# Altium integrated library Maxim_transrecivers.IntLib: 302 symbols (part 4 of 7)
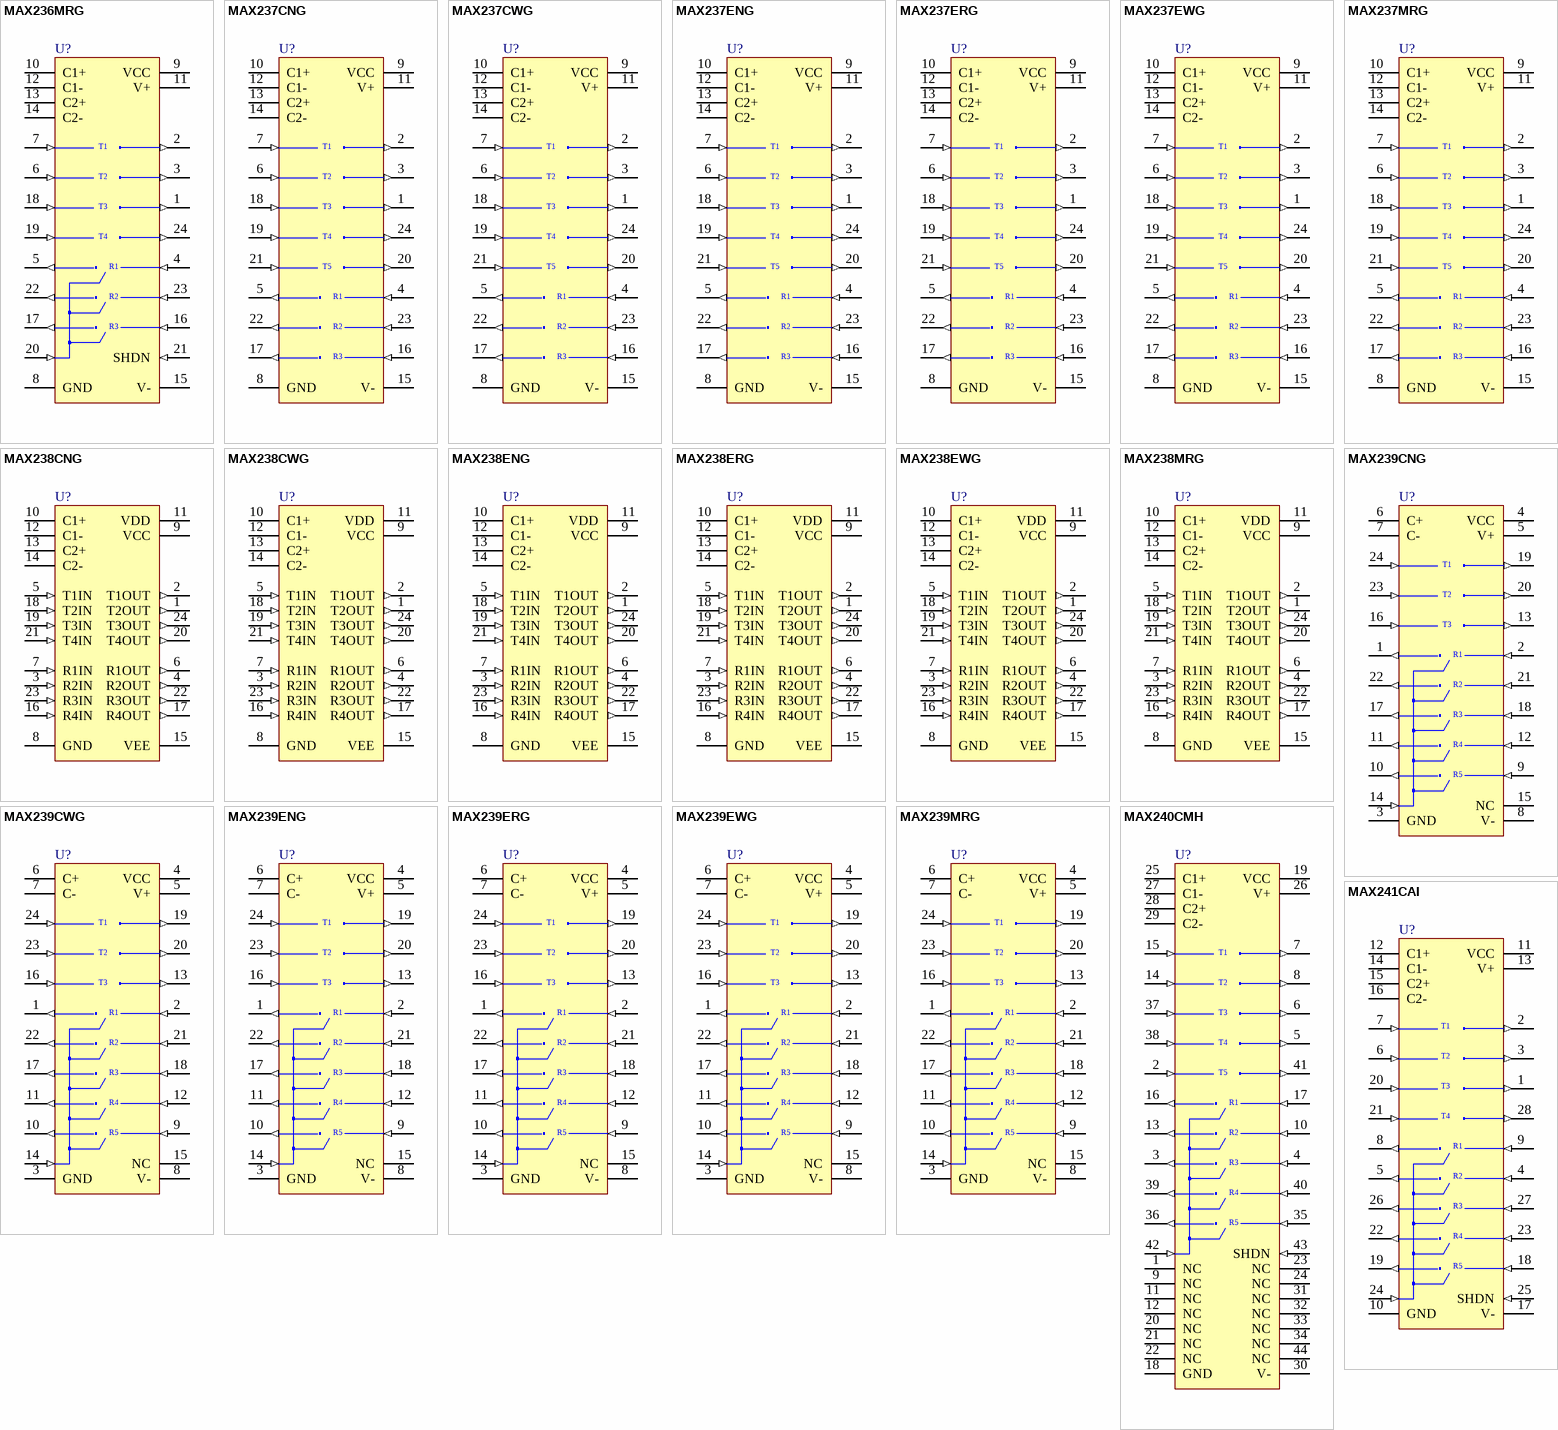
[diagram p15: symbols MAX236MRG to MAX241CAI]

## MAX238ENG
designator U?
+5V Powered RS-232 Driver/Receiver; Published: 16-Jan-2001; LatestRevisionDate: 29-May-2009; LatestRevisionNote: Component Body Added.; DatasheetVersion: Apr-1992; PackageVersion: 1997; PackageReference: NG24A; Publisher: Altium Limited; PackageDescription: DIP, 24-Pin, Row Spacing 7.62 mm, Pitch 2.54 mm; Code_JEDEC: MS-001-AF; ComponentLink1Description: Manufacturer Link; ComponentLink1URL: http://www.maxim-ic.com/; ComponentLink2Description: Datasheet; ComponentLink2URL: http://pdfserv.maxim-ic.com/en/ds/MAX220-MAX249.pdf
footprint NG24A (DIP, 24-Leads, Row Spacing 7.62mm, Pitch 2.54mm, Body 30.55x6.99mm)
3D model NG24 (DIP, 24-Pin, Row Spacing 7.62 mm, Pitch 2.54 mm)
pins: 1 T2OUT (out), 2 T1OUT (out), 3 R2IN (in), 4 R2OUT (out), 5 T1IN (in), 6 R1OUT (out), 7 R1IN (in), 8 GND (power), 9 VCC (power), 10 C1+, 11 VDD (power), 12 C1-, 13 C2+, 14 C2-, 15 VEE (power), 16 R4IN (in), 17 R4OUT (out), 18 T2IN (in), 19 T3IN (in), 20 T4OUT (out), 21 T4IN (in), 22 R3OUT (out), 23 R3IN (in), 24 T3OUT (out)

## MAX238ERG
designator U?
+5V Powered RS-232 Driver/Receiver; Published: 16-Jan-2001; LatestRevisionDate: 29-May-2009; LatestRevisionNote: Component Body Added.; DatasheetVersion: Apr-1992; PackageVersion: 1996; PackageReference: RG24; Publisher: Altium Limited; PackageDescription: DIP, 24-Pin, Row Spacing 7.62 mm, Pitch 2.54 mm; Code_JEDEC: MS-001-AF; ComponentLink1Description: Manufacturer Link; ComponentLink1URL: http://www.maxim-ic.com/; ComponentLink2Description: Datasheet; ComponentLink2URL: http://pdfserv.maxim-ic.com/en/ds/MAX220-MAX249.pdf
footprint RG24 (DIP, 24-Leads, Row Spacing 7.62mm, Pitch 2.54mm, Body 31.88x6.73mm)
3D model NG24 (DIP, 24-Pin, Row Spacing 7.62 mm, Pitch 2.54 mm)
pins: 1 T2OUT (out), 2 T1OUT (out), 3 R2IN (in), 4 R2OUT (out), 5 T1IN (in), 6 R1OUT (out), 7 R1IN (in), 8 GND (power), 9 VCC (power), 10 C1+, 11 VDD (power), 12 C1-, 13 C2+, 14 C2-, 15 VEE (power), 16 R4IN (in), 17 R4OUT (out), 18 T2IN (in), 19 T3IN (in), 20 T4OUT (out), 21 T4IN (in), 22 R3OUT (out), 23 R3IN (in), 24 T3OUT (out)

## MAX238EWG
designator U?
+5V Powered RS-232 Driver/Receiver; Published: 16-Jan-2001; LatestRevisionDate: 13-Apr-2006; LatestRevisionNote: IPC-7351 Footprint Added.; DatasheetVersion: Apr-1992; PackageReference: WSO24; Publisher: Altium Limited; PackageDescription: 24-Pin Small Outline Integrated Circuit 1.27 mm Pitch; ComponentLink1Description: Manufacturer Link; ComponentLink1URL: http://www.maxim-ic.com/; ComponentLink2Description: Datasheet; ComponentLink2URL: http://pdfserv.maxim-ic.com/en/ds/MAX220-MAX249.pdf
footprint WSO24_N (SOIC, 24-Leads, Body 15.4x7.5mm, Pitch 1.27mm, IPC Medium Density)
footprint WSO24_L (SOIC, 24-Leads, Body 15.4x7.5mm, Pitch 1.27mm, IPC High Density)
footprint WSO24_M (SOIC, 24-Leads, Body 15.4x7.5mm, Pitch 1.27mm, IPC Low Density)
3D model WSO24 (24-Pin Small Outline Integrated Circuit 1.27 mm Pitch)
pins: 1 T2OUT (out), 2 T1OUT (out), 3 R2IN (in), 4 R2OUT (out), 5 T1IN (in), 6 R1OUT (out), 7 R1IN (in), 8 GND (power), 9 VCC (power), 10 C1+, 11 VDD (power), 12 C1-, 13 C2+, 14 C2-, 15 VEE (power), 16 R4IN (in), 17 R4OUT (out), 18 T2IN (in), 19 T3IN (in), 20 T4OUT (out), 21 T4IN (in), 22 R3OUT (out), 23 R3IN (in), 24 T3OUT (out)

## MAX238MRG
designator U?
+5V Powered RS-232 Driver/Receiver; Published: 16-Jan-2001; LatestRevisionDate: 29-May-2009; LatestRevisionNote: Component Body Added.; DatasheetVersion: Apr-1992; PackageVersion: 1996; PackageReference: RG24; Publisher: Altium Limited; PackageDescription: DIP, 24-Pin, Row Spacing 7.62 mm, Pitch 2.54 mm; Code_JEDEC: MS-001-AF; ComponentLink1Description: Manufacturer Link; ComponentLink1URL: http://www.maxim-ic.com/; ComponentLink2Description: Datasheet; ComponentLink2URL: http://pdfserv.maxim-ic.com/en/ds/MAX220-MAX249.pdf
footprint RG24 (DIP, 24-Leads, Row Spacing 7.62mm, Pitch 2.54mm, Body 31.88x6.73mm)
3D model NG24 (DIP, 24-Pin, Row Spacing 7.62 mm, Pitch 2.54 mm)
pins: 1 T2OUT (out), 2 T1OUT (out), 3 R2IN (in), 4 R2OUT (out), 5 T1IN (in), 6 R1OUT (out), 7 R1IN (in), 8 GND (power), 9 VCC (power), 10 C1+, 11 VDD (power), 12 C1-, 13 C2+, 14 C2-, 15 VEE (power), 16 R4IN (in), 17 R4OUT (out), 18 T2IN (in), 19 T3IN (in), 20 T4OUT (out), 21 T4IN (in), 22 R3OUT (out), 23 R3IN (in), 24 T3OUT (out)

## MAX239CNG
designator U?
+5V-Powered, Multichannel RS-232 Driver/Receiver; Published: 16-Jan-2001; LatestRevisionDate: 29-May-2009; LatestRevisionNote: Component Body Added.; DatasheetVersion: Nov-1997; PackageVersion: Aug-2000; PackageReference: NG24; Publisher: Altium Limited; PackageDescription: DIP, 24-Pin, Row Spacing 7.62 mm, Pitch 2.54 mm; Code_JEDEC: MS-001-AF; ComponentLink1Description: Manufacturer Link; ComponentLink1URL: http://www.maxim-ic.com/; ComponentLink2Description: Datasheet; ComponentLink2URL: http://pdfserv.maxim-ic.com/en/ds/MAX220-MAX249.pdf
footprint NG24 (DIP, 24-Leads, Row Spacing 7.62mm, Pitch 2.54mm, Body 30.55x7.24mm)
3D model NG24 (DIP, 24-Pin, Row Spacing 7.62 mm, Pitch 2.54 mm)
pins: 1 R1OUT (out), 2 R1IN (in), 3 GND (power), 4 VCC (power), 5 V+ (power), 6 C+, 7 C-, 8 V- (power), 9 R5IN (in), 10 R5OUT (out), 11 R4OUT (out), 12 R4IN (in), 13 T3OUT (out), 14 ~{EN} (in), 15 NC, 16 T3IN (in), 17 R3OUT (out), 18 R3IN (in), 19 T1OUT (out), 20 T2OUT (out), 21 R2IN (in), 22 R2OUT (out), 23 T2IN (in), 24 T1IN (in)
text: T1; T2; T3; R1; R2; R3; R4; R5

## MAX239CWG
designator U?
+5V-Powered, Multichannel RS-232 Driver/Receiver; Published: 16-Jan-2001; LatestRevisionDate: 13-Apr-2006; LatestRevisionNote: IPC-7351 Footprint Added.; DatasheetVersion: Nov-1997; PackageReference: WSO24; Publisher: Altium Limited; PackageDescription: 24-Pin Small Outline Integrated Circuit 1.27 mm Pitch; ComponentLink1Description: Manufacturer Link; ComponentLink1URL: http://www.maxim-ic.com/; ComponentLink2Description: Datasheet; ComponentLink2URL: http://pdfserv.maxim-ic.com/en/ds/MAX220-MAX249.pdf
footprint WSO24_N (SOIC, 24-Leads, Body 15.4x7.5mm, Pitch 1.27mm, IPC Medium Density)
footprint WSO24_L (SOIC, 24-Leads, Body 15.4x7.5mm, Pitch 1.27mm, IPC High Density)
footprint WSO24_M (SOIC, 24-Leads, Body 15.4x7.5mm, Pitch 1.27mm, IPC Low Density)
3D model WSO24 (24-Pin Small Outline Integrated Circuit 1.27 mm Pitch)
pins: 1 R1OUT (out), 2 R1IN (in), 3 GND (power), 4 VCC (power), 5 V+ (power), 6 C+, 7 C-, 8 V- (power), 9 R5IN (in), 10 R5OUT (out), 11 R4OUT (out), 12 R4IN (in), 13 T3OUT (out), 14 ~{EN} (in), 15 NC, 16 T3IN (in), 17 R3OUT (out), 18 R3IN (in), 19 T1OUT (out), 20 T2OUT (out), 21 R2IN (in), 22 R2OUT (out), 23 T2IN (in), 24 T1IN (in)
text: T1; T2; T3; R1; R2; R3; R4; R5

## MAX239ENG
designator U?
+5V-Powered, Multichannel RS-232 Driver/Receiver; Published: 16-Jan-2001; LatestRevisionDate: 29-May-2009; LatestRevisionNote: Component Body Added.; DatasheetVersion: Nov-1997; PackageVersion: Aug-2000; PackageReference: NG24; Publisher: Altium Limited; PackageDescription: DIP, 24-Pin, Row Spacing 7.62 mm, Pitch 2.54 mm; Code_JEDEC: MS-001-AF; ComponentLink1Description: Manufacturer Link; ComponentLink1URL: http://www.maxim-ic.com/; ComponentLink2Description: Datasheet; ComponentLink2URL: http://pdfserv.maxim-ic.com/en/ds/MAX220-MAX249.pdf
footprint NG24 (DIP, 24-Leads, Row Spacing 7.62mm, Pitch 2.54mm, Body 30.55x7.24mm)
3D model NG24 (DIP, 24-Pin, Row Spacing 7.62 mm, Pitch 2.54 mm)
pins: 1 R1OUT (out), 2 R1IN (in), 3 GND (power), 4 VCC (power), 5 V+ (power), 6 C+, 7 C-, 8 V- (power), 9 R5IN (in), 10 R5OUT (out), 11 R4OUT (out), 12 R4IN (in), 13 T3OUT (out), 14 ~{EN} (in), 15 NC, 16 T3IN (in), 17 R3OUT (out), 18 R3IN (in), 19 T1OUT (out), 20 T2OUT (out), 21 R2IN (in), 22 R2OUT (out), 23 T2IN (in), 24 T1IN (in)
text: T1; T2; T3; R1; R2; R3; R4; R5

## MAX239ERG
designator U?
+5V-Powered, Multichannel RS-232 Driver/Receiver; Published: 16-Jan-2001; LatestRevisionDate: 29-May-2009; LatestRevisionNote: Component Body Added.; DatasheetVersion: Nov-1997; PackageVersion: 1996; PackageReference: RG24; Publisher: Altium Limited; PackageDescription: DIP, 24-Pin, Row Spacing 7.62 mm, Pitch 2.54 mm; Code_JEDEC: MS-001-AF; ComponentLink1Description: Manufacturer Link; ComponentLink1URL: http://www.maxim-ic.com/; ComponentLink2Description: Datasheet; ComponentLink2URL: http://pdfserv.maxim-ic.com/en/ds/MAX220-MAX249.pdf
footprint RG24 (DIP, 24-Leads, Row Spacing 7.62mm, Pitch 2.54mm, Body 31.88x6.73mm)
3D model NG24 (DIP, 24-Pin, Row Spacing 7.62 mm, Pitch 2.54 mm)
pins: 1 R1OUT (out), 2 R1IN (in), 3 GND (power), 4 VCC (power), 5 V+ (power), 6 C+, 7 C-, 8 V- (power), 9 R5IN (in), 10 R5OUT (out), 11 R4OUT (out), 12 R4IN (in), 13 T3OUT (out), 14 ~{EN} (in), 15 NC, 16 T3IN (in), 17 R3OUT (out), 18 R3IN (in), 19 T1OUT (out), 20 T2OUT (out), 21 R2IN (in), 22 R2OUT (out), 23 T2IN (in), 24 T1IN (in)
text: T1; T2; T3; R1; R2; R3; R4; R5

## MAX239EWG
designator U?
+5V-Powered, Multichannel RS-232 Driver/Receiver; Published: 16-Jan-2001; LatestRevisionDate: 13-Apr-2006; LatestRevisionNote: IPC-7351 Footprint Added.; DatasheetVersion: Nov-1997; PackageReference: WSO24; Publisher: Altium Limited; PackageDescription: 24-Pin Small Outline Integrated Circuit 1.27 mm Pitch; ComponentLink1Description: Manufacturer Link; ComponentLink1URL: http://www.maxim-ic.com/; ComponentLink2Description: Datasheet; ComponentLink2URL: http://pdfserv.maxim-ic.com/en/ds/MAX220-MAX249.pdf
footprint WSO24_N (SOIC, 24-Leads, Body 15.4x7.5mm, Pitch 1.27mm, IPC Medium Density)
footprint WSO24_L (SOIC, 24-Leads, Body 15.4x7.5mm, Pitch 1.27mm, IPC High Density)
footprint WSO24_M (SOIC, 24-Leads, Body 15.4x7.5mm, Pitch 1.27mm, IPC Low Density)
3D model WSO24 (24-Pin Small Outline Integrated Circuit 1.27 mm Pitch)
pins: 1 R1OUT (out), 2 R1IN (in), 3 GND (power), 4 VCC (power), 5 V+ (power), 6 C+, 7 C-, 8 V- (power), 9 R5IN (in), 10 R5OUT (out), 11 R4OUT (out), 12 R4IN (in), 13 T3OUT (out), 14 ~{EN} (in), 15 NC, 16 T3IN (in), 17 R3OUT (out), 18 R3IN (in), 19 T1OUT (out), 20 T2OUT (out), 21 R2IN (in), 22 R2OUT (out), 23 T2IN (in), 24 T1IN (in)
text: T1; T2; T3; R1; R2; R3; R4; R5

## MAX239MRG
designator U?
+5V-Powered, Multichannel RS-232 Driver/Receiver; Published: 16-Jan-2001; LatestRevisionDate: 29-May-2009; LatestRevisionNote: Component Body Added.; DatasheetVersion: Nov-1997; PackageVersion: 1996; PackageReference: RG24; Publisher: Altium Limited; PackageDescription: DIP, 24-Pin, Row Spacing 7.62 mm, Pitch 2.54 mm; Code_JEDEC: MS-001-AF; ComponentLink1Description: Manufacturer Link; ComponentLink1URL: http://www.maxim-ic.com/; ComponentLink2Description: Datasheet; ComponentLink2URL: http://pdfserv.maxim-ic.com/en/ds/MAX220-MAX249.pdf
footprint RG24 (DIP, 24-Leads, Row Spacing 7.62mm, Pitch 2.54mm, Body 31.88x6.73mm)
3D model NG24 (DIP, 24-Pin, Row Spacing 7.62 mm, Pitch 2.54 mm)
pins: 1 R1OUT (out), 2 R1IN (in), 3 GND (power), 4 VCC (power), 5 V+ (power), 6 C+, 7 C-, 8 V- (power), 9 R5IN (in), 10 R5OUT (out), 11 R4OUT (out), 12 R4IN (in), 13 T3OUT (out), 14 ~{EN} (in), 15 NC, 16 T3IN (in), 17 R3OUT (out), 18 R3IN (in), 19 T1OUT (out), 20 T2OUT (out), 21 R2IN (in), 22 R2OUT (out), 23 T2IN (in), 24 T1IN (in)
text: T1; T2; T3; R1; R2; R3; R4; R5

## MAX240CMH
designator U?
+5V-Powered, Multichannel RS-232 Driver/Receiver; Published: 16-Jan-2001; LatestRevisionDate: 13-Apr-2006; LatestRevisionNote: IPC-7351 Footprint Added.; DatasheetVersion: Nov-1997; PackageVersion: 21-0826; PackageReference: MQFP44; Publisher: Altium Limited; PackageDescription: 44-Pin Quad Flat Pack 0.8 mm Pitch; Code_JEDEC: MS-022-AB; Code_IPC: QFP80P1320X1320-44; ComponentLink1Description: Manufacturer Link; ComponentLink1URL: http://www.maxim-ic.com/; ComponentLink2Description: Datasheet; ComponentLink2URL: http://pdfserv.maxim-ic.com/en/ds/MAX220-MAX249.pdf
footprint MQFP44_N (QFP, 44-Leads, Body 10x10mm, Pitch 0.8mm, IPC Medium Density)
footprint MQFP44_L (QFP, 44-Leads, Body 10x10mm, Pitch 0.8mm, IPC High Density)
footprint MQFP44_M (QFP, 44-Leads, Body 10x10mm, Pitch 0.8mm, IPC Low Density)
3D model MAX240-MQFP44 (44-Pin Quad Flat Pack 0.8 mm Pitch)
pins: 1 NC, 2 T5IN (in), 3 R3OUT (out), 4 R3IN (in), 5 T4OUT (out), 6 T3OUT (out), 7 T1OUT (out), 8 T2OUT (out), 9 NC, 10 R2IN (in), 11 NC, 12 NC, 13 R2OUT (out), 14 T2IN (in), 15 T1IN (in), 16 R1OUT (out), 17 R1IN (in), 18 GND (power), 19 VCC (power), 20 NC, 21 NC, 22 NC, 23 NC, 24 NC, 25 C1+, 26 V+ (power), 27 C1-, 28 C2+, 29 C2-, 30 V- (power), 31 NC, 32 NC, 33 NC, 34 NC, 35 R5IN (in), 36 R5OUT (out), 37 T3IN (in), 38 T4IN (in), 39 R4OUT (out), 40 R4IN (in), 41 T5OUT (out), 42 ~{EN} (in), 43 SHDN (in), 44 NC
text: T1; T2; T3; T4; T5; R1; R2; R3; R4; R5

## MAX241CAI
designator U?
+5V-Powered, Multichannel RS-232 Driver/Receiver; Published: 16-Jan-2001; LatestRevisionDate: 29-May-2009; LatestRevisionNote: IPC-7351 Footprint Added.; DatasheetVersion: Nov-1997; PackageVersion: Jul-2000; PackageReference: SSOP28; Publisher: Altium Limited; PackageDescription: 28-Pin Small Outline Package 0.65 mm Pitch; Code_JEDEC: MO-150-AH; Code_IPC: SOP65P780-28; ComponentLink1Description: Manufacturer Link; ComponentLink1URL: http://www.maxim-ic.com/; ComponentLink2Description: Datasheet; ComponentLink2URL: http://pdfserv.maxim-ic.com/en/ds/MAX220-MAX249.pdf
footprint SSOP28_N (SOP, 28-Leads, Body 10.2x5.3mm, Pitch 0.65mm, IPC Medium Density)
footprint SSOP28_L (SOP, 28-Leads, Body 10.2x5.3mm, Pitch 0.65mm, IPC High Density)
footprint SSOP28_M (SOP, 28-Leads, Body 10.2x5.3mm, Pitch 0.65mm, IPC Low Density)
3D model SSOP28 (28-Pin Small Outline Package 0.65 mm Pitch)
pins: 1 T3OUT (out), 2 T1OUT (out), 3 T2OUT (out), 4 R2IN (in), 5 R2OUT (out), 6 T2IN (in), 7 T1IN (in), 8 R1OUT (out), 9 R1IN (in), 10 GND (power), 11 VCC (power), 12 C1+, 13 V+ (power), 14 C1-, 15 C2+, 16 C2-, 17 V- (power), 18 R5IN (in), 19 R5OUT (out), 20 T3IN (in), 21 T4IN (in), 22 R4OUT (out), 23 R4IN (in), 24 ~{EN} (in), 25 SHDN (in), 26 R3OUT (out), 27 R3IN (in), 28 T4OUT (out)
text: T1; T2; T3; T4; R1; R2; R3; R4; R5

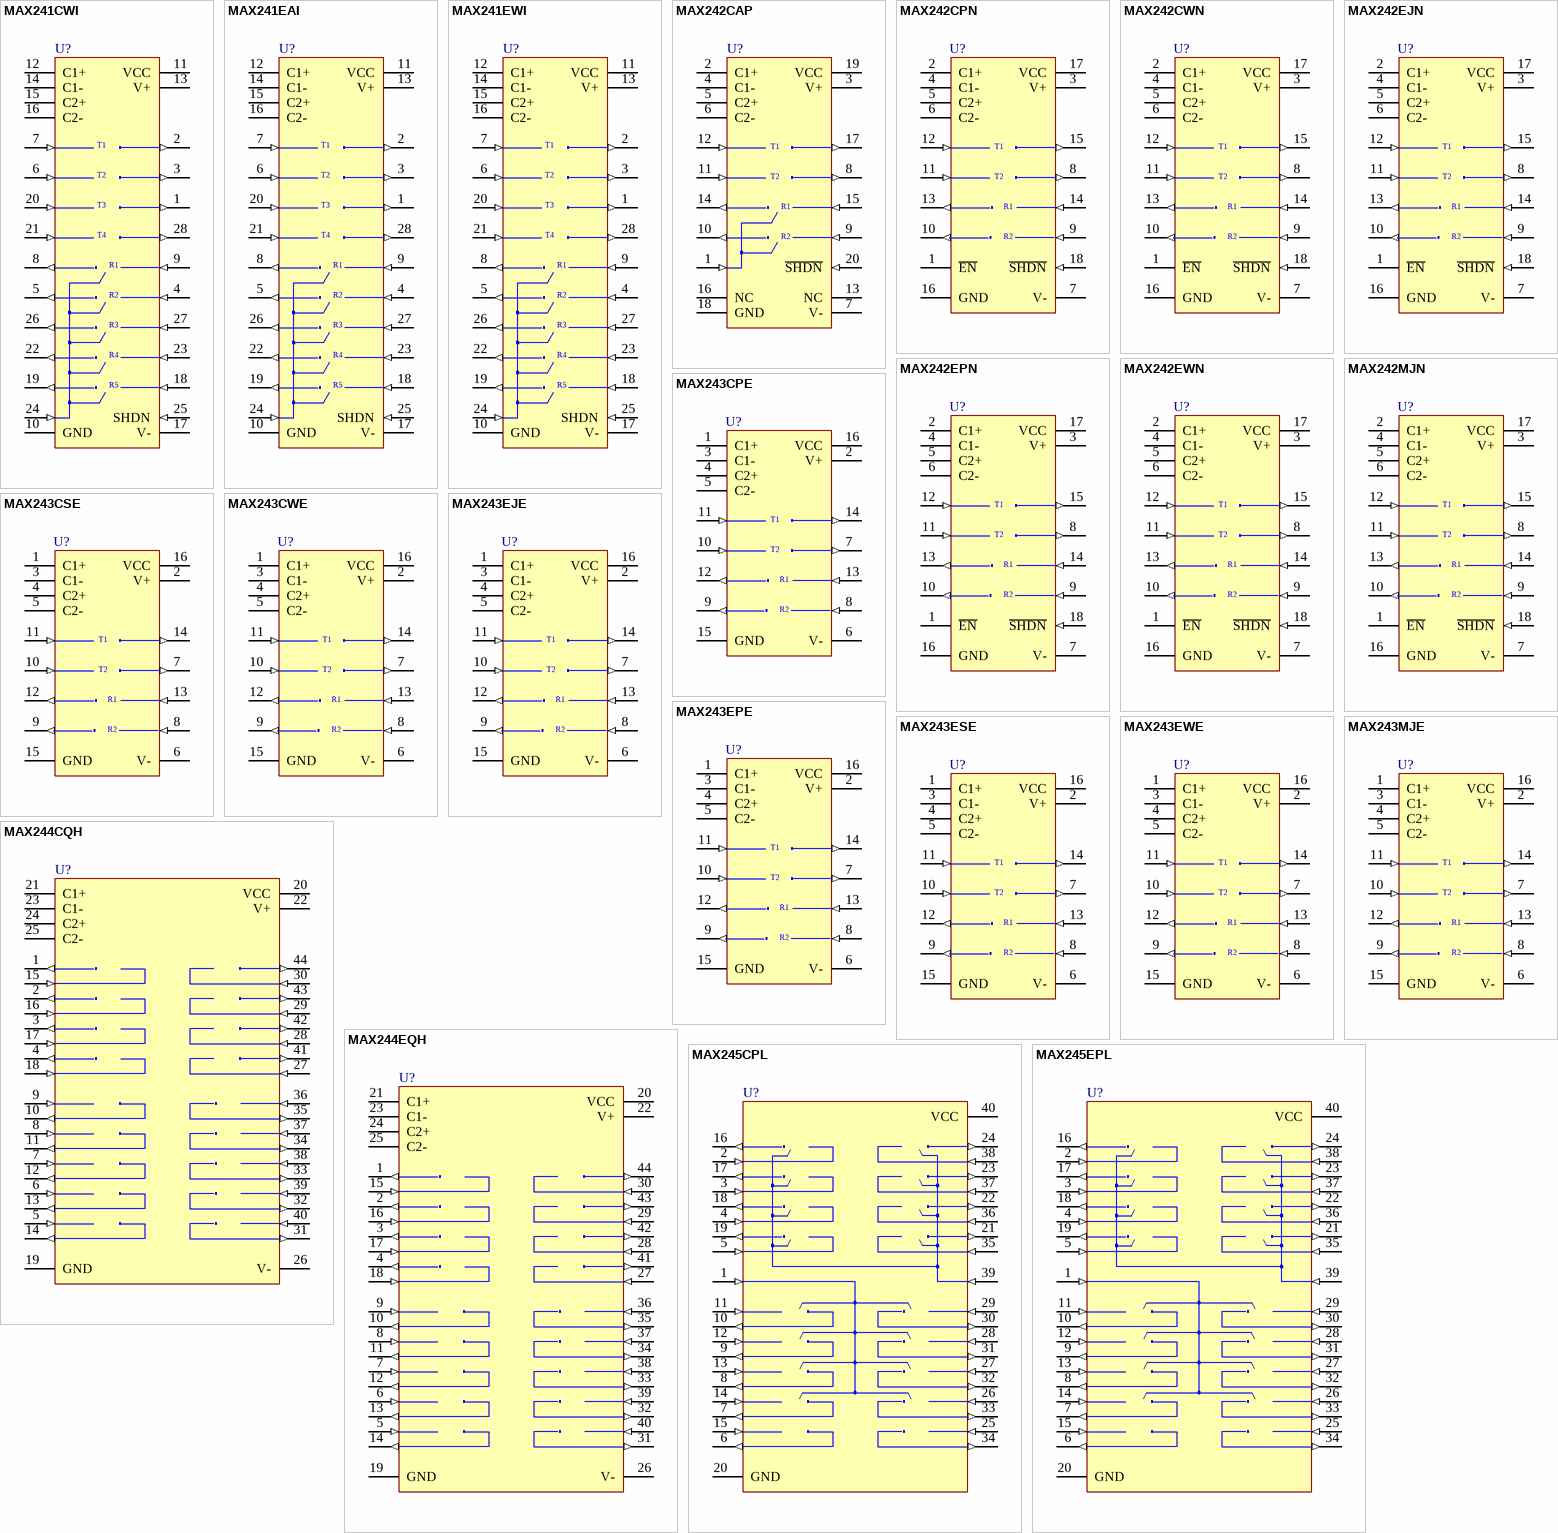
[diagram p6: symbols MAX241CWI to MAX245EPL]

## MAX241CWI
designator U?
+5V-Powered, Multichannel RS-232 Driver/Receiver; Published: 16-Jan-2001; LatestRevisionDate: 13-Apr-2006; LatestRevisionNote: IPC-7351 Footprint Added.; DatasheetVersion: Nov-1997; PackageReference: WSO28; Publisher: Altium Limited; PackageDescription: 28-Pin Small Outline Integrated Circuit 1.27 mm Pitch; ComponentLink1Description: Manufacturer Link; ComponentLink1URL: http://www.maxim-ic.com/; ComponentLink2Description: Datasheet; ComponentLink2URL: http://pdfserv.maxim-ic.com/en/ds/MAX220-MAX249.pdf
footprint WSO28_N (SOIC, 28-Leads, Body 17.9x7.5mm, Pitch 1.27mm, IPC Medium Density)
footprint WSO28_L (SOIC, 28-Leads, Body 17.9x7.5mm, Pitch 1.27mm, IPC High Density)
footprint WSO28_M (SOIC, 28-Leads, Body 17.9x7.5mm, Pitch 1.27mm, IPC Low Density)
3D model WSO28 (28-Pin Small Outline Integrated Circuit 1.27 mm Pitch)
pins: 1 T3OUT (out), 2 T1OUT (out), 3 T2OUT (out), 4 R2IN (in), 5 R2OUT (out), 6 T2IN (in), 7 T1IN (in), 8 R1OUT (out), 9 R1IN (in), 10 GND (power), 11 VCC (power), 12 C1+, 13 V+ (power), 14 C1-, 15 C2+, 16 C2-, 17 V- (power), 18 R5IN (in), 19 R5OUT (out), 20 T3IN (in), 21 T4IN (in), 22 R4OUT (out), 23 R4IN (in), 24 ~{EN} (in), 25 SHDN (in), 26 R3OUT (out), 27 R3IN (in), 28 T4OUT (out)
text: T1; T2; T3; T4; R1; R2; R3; R4; R5

## MAX241EAI
designator U?
+5V-Powered, Multichannel RS-232 Driver/Receiver; Published: 16-Jan-2001; LatestRevisionDate: 29-May-2009; LatestRevisionNote: IPC-7351 Footprint Added.; DatasheetVersion: Nov-1997; PackageVersion: Jul-2000; PackageReference: SSOP28; Publisher: Altium Limited; PackageDescription: 28-Pin Small Outline Package 0.65 mm Pitch; Code_JEDEC: MO-150-AH; Code_IPC: SOP65P780-28; ComponentLink1Description: Manufacturer Link; ComponentLink1URL: http://www.maxim-ic.com/; ComponentLink2Description: Datasheet; ComponentLink2URL: http://pdfserv.maxim-ic.com/en/ds/MAX220-MAX249.pdf
footprint SSOP28_N (SOP, 28-Leads, Body 10.2x5.3mm, Pitch 0.65mm, IPC Medium Density)
footprint SSOP28_L (SOP, 28-Leads, Body 10.2x5.3mm, Pitch 0.65mm, IPC High Density)
footprint SSOP28_M (SOP, 28-Leads, Body 10.2x5.3mm, Pitch 0.65mm, IPC Low Density)
3D model SSOP28 (28-Pin Small Outline Package 0.65 mm Pitch)
pins: 1 T3OUT (out), 2 T1OUT (out), 3 T2OUT (out), 4 R2IN (in), 5 R2OUT (out), 6 T2IN (in), 7 T1IN (in), 8 R1OUT (out), 9 R1IN (in), 10 GND (power), 11 VCC (power), 12 C1+, 13 V+ (power), 14 C1-, 15 C2+, 16 C2-, 17 V- (power), 18 R5IN (in), 19 R5OUT (out), 20 T3IN (in), 21 T4IN (in), 22 R4OUT (out), 23 R4IN (in), 24 ~{EN} (in), 25 SHDN (in), 26 R3OUT (out), 27 R3IN (in), 28 T4OUT (out)
text: T1; T2; T3; T4; R1; R2; R3; R4; R5

## MAX241EWI
designator U?
+5V-Powered, Multichannel RS-232 Driver/Receiver; Published: 16-Jan-2001; LatestRevisionDate: 13-Apr-2006; LatestRevisionNote: IPC-7351 Footprint Added.; DatasheetVersion: Nov-1997; PackageReference: WSO28; Publisher: Altium Limited; PackageDescription: 28-Pin Small Outline Integrated Circuit 1.27 mm Pitch; ComponentLink1Description: Manufacturer Link; ComponentLink1URL: http://www.maxim-ic.com/; ComponentLink2Description: Datasheet; ComponentLink2URL: http://pdfserv.maxim-ic.com/en/ds/MAX220-MAX249.pdf
footprint WSO28_N (SOIC, 28-Leads, Body 17.9x7.5mm, Pitch 1.27mm, IPC Medium Density)
footprint WSO28_L (SOIC, 28-Leads, Body 17.9x7.5mm, Pitch 1.27mm, IPC High Density)
footprint WSO28_M (SOIC, 28-Leads, Body 17.9x7.5mm, Pitch 1.27mm, IPC Low Density)
3D model WSO28 (28-Pin Small Outline Integrated Circuit 1.27 mm Pitch)
pins: 1 T3OUT (out), 2 T1OUT (out), 3 T2OUT (out), 4 R2IN (in), 5 R2OUT (out), 6 T2IN (in), 7 T1IN (in), 8 R1OUT (out), 9 R1IN (in), 10 GND (power), 11 VCC (power), 12 C1+, 13 V+ (power), 14 C1-, 15 C2+, 16 C2-, 17 V- (power), 18 R5IN (in), 19 R5OUT (out), 20 T3IN (in), 21 T4IN (in), 22 R4OUT (out), 23 R4IN (in), 24 ~{EN} (in), 25 SHDN (in), 26 R3OUT (out), 27 R3IN (in), 28 T4OUT (out)
text: T1; T2; T3; T4; R1; R2; R3; R4; R5

## MAX242CAP
designator U?
+5V-Powered, Multichannel RS-232 Driver/Receiver; Published: 16-Jan-2001; LatestRevisionDate: 29-May-2009; LatestRevisionNote: IPC-7351 Footprint Added.; DatasheetVersion: Nov-1997; PackageVersion: 1997; PackageReference: SSOP20; Publisher: Altium Limited; PackageDescription: 20-Pin Small Outline Package 0.65 mm Pitch; Code_JEDEC: MO-150-AE; Code_IPC: SOP65P780-20; ComponentLink1Description: Manufacturer Link; ComponentLink1URL: http://www.maxim-ic.com/; ComponentLink2Description: Datasheet; ComponentLink2URL: http://pdfserv.maxim-ic.com/en/ds/MAX220-MAX249.pdf
footprint SSOP20_N (SOP, 20-Leads, Body 7.2x5.3mm, Pitch 0.65mm, IPC Medium Density)
footprint SSOP20_L (SOP, 20-Leads, Body 7.2x5.3mm, Pitch 0.65mm, IPC High Density)
footprint SSOP20_M (SOP, 20-Leads, Body 7.2x5.3mm, Pitch 0.65mm, IPC Low Density)
3D model SSOP20 (20-Pin Small Outline Package 0.65 mm Pitch)
pins: 1 ~{EN} (in), 2 C1+, 3 V+ (power), 4 C1-, 5 C2+, 6 C2-, 7 V- (power), 8 T2OUT (out), 9 R2IN (in), 10 R2OUT (out), 11 T2IN (in), 12 T1IN (in), 13 NC, 14 R1OUT (out), 15 R1IN (in), 16 NC, 17 T1OUT (out), 18 GND (power), 19 VCC (power), 20 ~{SHDN} (in)
text: T1; T2; R1; R2

## MAX242CPN
designator U?
+5V-Powered, Multichannel RS-232 Driver/Receiver; Published: 16-Jan-2001; LatestRevisionDate: 29-May-2009; LatestRevisionNote: Component Body Added.; DatasheetVersion: Nov-1997; PackageVersion: Aug-2000; PackageReference: PN18; Publisher: Altium Limited; PackageDescription: DIP, 18-Pin, Row Spacing 7.62 mm, Pitch 2.54 mm; ComponentLink1Description: Manufacturer Link; ComponentLink1URL: http://www.maxim-ic.com/; ComponentLink2Description: Datasheet; ComponentLink2URL: http://pdfserv.maxim-ic.com/en/ds/MAX220-MAX249.pdf
footprint PN18 (DIP, 18-Leads, Row Spacing 7.62mm, Pitch 2.54mm, Body 22.86x7.24mm)
3D model PN18 (DIP, 18-Pin, Row Spacing 7.62 mm, Pitch 2.54 mm)
pins: 1 ~{EN}, 2 C1+, 3 V+ (power), 4 C1-, 5 C2+, 6 C2-, 7 V- (power), 8 T2OUT (out), 9 R2IN (in), 10 R2OUT (out), 11 T2IN (in), 12 T1IN (in), 13 R1OUT (out), 14 R1IN (in), 15 T1OUT (out), 16 GND (power), 17 VCC (power), 18 ~{SHDN} (in)
text: T1; T2; R1; R2

## MAX242CWN
designator U?
+5V-Powered, Multichannel RS-232 Driver/Receiver; Published: 16-Jan-2001; LatestRevisionDate: 13-Apr-2006; LatestRevisionNote: IPC-7351 Footprint Added.; DatasheetVersion: Nov-1997; PackageReference: WSO18; Publisher: Altium Limited; PackageDescription: 18-Pin Small Outline Integrated Circuit 1.27 mm Pitch; Code_JEDEC: MS-013-AB; ComponentLink1Description: Manufacturer Link; ComponentLink1URL: http://www.maxim-ic.com/; ComponentLink2Description: Datasheet; ComponentLink2URL: http://pdfserv.maxim-ic.com/en/ds/MAX220-MAX249.pdf
footprint WSO18_N (SOIC, 18-Leads, Body 11.6x7.5mm, Pitch 1.27mm, IPC Medium Density)
footprint WSO18_L (SOIC, 18-Leads, Body 11.6x7.5mm, Pitch 1.27mm, IPC High Density)
footprint WSO18_M (SOIC, 18-Leads, Body 11.6x7.5mm, Pitch 1.27mm, IPC Low Density)
3D model WSO18 (18-Pin Small Outline Integrated Circuit 1.27 mm Pitch)
pins: 1 ~{EN}, 2 C1+, 3 V+ (power), 4 C1-, 5 C2+, 6 C2-, 7 V- (power), 8 T2OUT (out), 9 R2IN (in), 10 R2OUT (out), 11 T2IN (in), 12 T1IN (in), 13 R1OUT (out), 14 R1IN (in), 15 T1OUT (out), 16 GND (power), 17 VCC (power), 18 ~{SHDN} (in)
text: T1; T2; R1; R2

## MAX242EJN
designator U?
+5V-Powered, Multichannel RS-232 Driver/Receiver; Published: 16-Jan-2001; LatestRevisionDate: 29-May-2009; LatestRevisionNote: Component Body Added.; DatasheetVersion: Nov-1997; PackageVersion: 1996; PackageReference: JN18; Publisher: Altium Limited; PackageDescription: DIP, 18-Pin, Row Spacing 7.62 mm, Pitch 2.54 mm; ComponentLink1Description: Manufacturer Link; ComponentLink1URL: http://www.maxim-ic.com/; ComponentLink2Description: Datasheet; ComponentLink2URL: http://pdfserv.maxim-ic.com/en/ds/MAX220-MAX249.pdf
footprint JN18 (DIP, 18-Leads, Row Spacing 7.62mm, Pitch 2.54mm, Body 24.13x6.73mm)
3D model JN18 (DIP, 18-Pin, Row Spacing 7.62 mm, Pitch 2.54 mm)
pins: 1 ~{EN}, 2 C1+, 3 V+ (power), 4 C1-, 5 C2+, 6 C2-, 7 V- (power), 8 T2OUT (out), 9 R2IN (in), 10 R2OUT (out), 11 T2IN (in), 12 T1IN (in), 13 R1OUT (out), 14 R1IN (in), 15 T1OUT (out), 16 GND (power), 17 VCC (power), 18 ~{SHDN} (in)
text: T1; T2; R1; R2

## MAX242EPN
designator U?
+5V-Powered, Multichannel RS-232 Driver/Receiver; Published: 16-Jan-2001; LatestRevisionDate: 29-May-2009; LatestRevisionNote: Component Body Added.; DatasheetVersion: Nov-1997; PackageVersion: Aug-2000; PackageReference: PN18; Publisher: Altium Limited; PackageDescription: DIP, 18-Pin, Row Spacing 7.62 mm, Pitch 2.54 mm; ComponentLink1Description: Manufacturer Link; ComponentLink1URL: http://www.maxim-ic.com/; ComponentLink2Description: Datasheet; ComponentLink2URL: http://pdfserv.maxim-ic.com/en/ds/MAX220-MAX249.pdf
footprint PN18 (DIP, 18-Leads, Row Spacing 7.62mm, Pitch 2.54mm, Body 22.86x7.24mm)
3D model PN18 (DIP, 18-Pin, Row Spacing 7.62 mm, Pitch 2.54 mm)
pins: 1 ~{EN}, 2 C1+, 3 V+ (power), 4 C1-, 5 C2+, 6 C2-, 7 V- (power), 8 T2OUT (out), 9 R2IN (in), 10 R2OUT (out), 11 T2IN (in), 12 T1IN (in), 13 R1OUT (out), 14 R1IN (in), 15 T1OUT (out), 16 GND (power), 17 VCC (power), 18 ~{SHDN} (in)
text: T1; T2; R1; R2

## MAX242EWN
designator U?
+5V-Powered, Multichannel RS-232 Driver/Receiver; Published: 16-Jan-2001; LatestRevisionDate: 13-Apr-2006; LatestRevisionNote: IPC-7351 Footprint Added.; DatasheetVersion: Nov-1997; PackageReference: WSO18; Publisher: Altium Limited; PackageDescription: 18-Pin Small Outline Integrated Circuit 1.27 mm Pitch; Code_JEDEC: MS-013-AB; ComponentLink1Description: Manufacturer Link; ComponentLink1URL: http://www.maxim-ic.com/; ComponentLink2Description: Datasheet; ComponentLink2URL: http://pdfserv.maxim-ic.com/en/ds/MAX220-MAX249.pdf
footprint WSO18_N (SOIC, 18-Leads, Body 11.6x7.5mm, Pitch 1.27mm, IPC Medium Density)
footprint WSO18_L (SOIC, 18-Leads, Body 11.6x7.5mm, Pitch 1.27mm, IPC High Density)
footprint WSO18_M (SOIC, 18-Leads, Body 11.6x7.5mm, Pitch 1.27mm, IPC Low Density)
3D model WSO18 (18-Pin Small Outline Integrated Circuit 1.27 mm Pitch)
pins: 1 ~{EN}, 2 C1+, 3 V+ (power), 4 C1-, 5 C2+, 6 C2-, 7 V- (power), 8 T2OUT (out), 9 R2IN (in), 10 R2OUT (out), 11 T2IN (in), 12 T1IN (in), 13 R1OUT (out), 14 R1IN (in), 15 T1OUT (out), 16 GND (power), 17 VCC (power), 18 ~{SHDN} (in)
text: T1; T2; R1; R2

## MAX242MJN
designator U?
+5V-Powered, Multichannel RS-232 Driver/Receiver; Published: 16-Jan-2001; LatestRevisionDate: 29-May-2009; LatestRevisionNote: Component Body Added.; DatasheetVersion: Nov-1997; PackageVersion: 1996; PackageReference: JN18; Publisher: Altium Limited; PackageDescription: DIP, 18-Pin, Row Spacing 7.62 mm, Pitch 2.54 mm; ComponentLink1Description: Manufacturer Link; ComponentLink1URL: http://www.maxim-ic.com/; ComponentLink2Description: Datasheet; ComponentLink2URL: http://pdfserv.maxim-ic.com/en/ds/MAX220-MAX249.pdf
footprint JN18 (DIP, 18-Leads, Row Spacing 7.62mm, Pitch 2.54mm, Body 24.13x6.73mm)
3D model JN18 (DIP, 18-Pin, Row Spacing 7.62 mm, Pitch 2.54 mm)
pins: 1 ~{EN}, 2 C1+, 3 V+ (power), 4 C1-, 5 C2+, 6 C2-, 7 V- (power), 8 T2OUT (out), 9 R2IN (in), 10 R2OUT (out), 11 T2IN (in), 12 T1IN (in), 13 R1OUT (out), 14 R1IN (in), 15 T1OUT (out), 16 GND (power), 17 VCC (power), 18 ~{SHDN} (in)
text: T1; T2; R1; R2

## MAX243CPE
designator U?
+5V-Powered, Multichannel RS-232 Driver/Receiver; Published: 16-Jan-2001; LatestRevisionDate: 29-May-2009; LatestRevisionNote: Component Body Added.; DatasheetVersion: Nov-1997; PackageVersion: Aug-2000; PackageReference: PE16; Publisher: Altium Limited; PackageDescription: DIP, 16-Pin, Row Spacing 7.62 mm, Pitch 2.54 mm; Code_JEDEC: MS-001-BB; ComponentLink1Description: Manufacturer Link; ComponentLink1URL: http://www.maxim-ic.com/; ComponentLink2Description: Datasheet; ComponentLink2URL: http://pdfserv.maxim-ic.com/en/ds/MAX220-MAX249.pdf
footprint PE16 (DIP, 16-Leads, Row Spacing 7.62mm, Pitch 2.54mm, Body 19.18x7.24mm)
3D model PE16 (DIP, 16-Pin, Row Spacing 7.62 mm, Pitch 2.54 mm)
pins: 1 C1+, 2 V+ (power), 3 C1-, 4 C2+, 5 C2-, 6 V- (power), 7 T2OUT (out), 8 R2IN (in), 9 R2OUT (out), 10 T2IN (in), 11 T1IN (in), 12 R1OUT (out), 13 R1IN (in), 14 T1OUT (out), 15 GND (power), 16 VCC (power)
text: T1; T2; R1; R2

## MAX243CSE
designator U?
+5V-Powered, Multichannel RS-232 Driver/Receiver; Published: 16-Jan-2001; LatestRevisionDate: 13-Apr-2006; LatestRevisionNote: IPC-7351 Footprint Added.; DatasheetVersion: Nov-1997; PackageReference: NSO16; Publisher: Altium Limited; PackageDescription: 16-Pin Small Outline Integrated Circuit 1.27 mm Pitch; Code_JEDEC: MS-012-AC; Code_IPC: SOIC127P600-16; ComponentLink1Description: Manufacturer Link; ComponentLink1URL: http://www.maxim-ic.com/; ComponentLink2Description: Datasheet; ComponentLink2URL: http://pdfserv.maxim-ic.com/en/ds/MAX220-MAX249.pdf
footprint NSO16_N (SOIC, 16-Leads, Body 9.9x3.9mm, Pitch 1.27mm, IPC Medium Density)
footprint NSO16_L (SOIC, 16-Leads, Body 9.9x3.9mm, Pitch 1.27mm, IPC High Density)
footprint NSO16_M (SOIC, 16-Leads, Body 9.9x3.9mm, Pitch 1.27mm, IPC Low Density)
3D model NSO16 (16-Pin Small Outline Integrated Circuit 1.27 mm Pitch)
pins: 1 C1+, 2 V+ (power), 3 C1-, 4 C2+, 5 C2-, 6 V- (power), 7 T2OUT (out), 8 R2IN (in), 9 R2OUT (out), 10 T2IN (in), 11 T1IN (in), 12 R1OUT (out), 13 R1IN (in), 14 T1OUT (out), 15 GND (power), 16 VCC (power)
text: T1; T2; R1; R2

## MAX243CWE
designator U?
+5V-Powered, Multichannel RS-232 Driver/Receiver; Published: 16-Jan-2001; LatestRevisionDate: 13-Apr-2006; LatestRevisionNote: IPC-7351 Footprint Added.; DatasheetVersion: Nov-1997; PackageReference: WSO16; Publisher: Altium Limited; PackageDescription: 16-Pin Small Outline Integrated Circuit 1.27 mm Pitch; Code_JEDEC: MS-013-AA; Code_IPC: SOIC127P1030-16; ComponentLink1Description: Manufacturer Link; ComponentLink1URL: http://www.maxim-ic.com/; ComponentLink2Description: Datasheet; ComponentLink2URL: http://pdfserv.maxim-ic.com/en/ds/MAX220-MAX249.pdf
footprint WSO16_N (SOIC, 16-Leads, Body 10.3x7.5mm, Pitch 1.27mm, IPC Medium Density)
footprint WSO16_L (SOIC, 16-Leads, Body 10.3x7.5mm, Pitch 1.27mm, IPC High Density)
footprint WSO16_M (SOIC, 16-Leads, Body 10.3x7.5mm, Pitch 1.27mm, IPC Low Density)
3D model WSO16 (16-Pin Small Outline Integrated Circuit 1.27 mm Pitch)
pins: 1 C1+, 2 V+ (power), 3 C1-, 4 C2+, 5 C2-, 6 V- (power), 7 T2OUT (out), 8 R2IN (in), 9 R2OUT (out), 10 T2IN (in), 11 T1IN (in), 12 R1OUT (out), 13 R1IN (in), 14 T1OUT (out), 15 GND (power), 16 VCC (power)
text: T1; T2; R1; R2

## MAX243EJE
designator U?
+5V-Powered, Multichannel RS-232 Driver/Receiver; Published: 16-Jan-2001; LatestRevisionDate: 29-May-2009; LatestRevisionNote: Component Body Added.; DatasheetVersion: Nov-1997; PackageVersion: 1996; PackageReference: JE16; Publisher: Altium Limited; PackageDescription: DIP, 16-Pin, Row Spacing 7.62 mm, Pitch 2.54 mm; ComponentLink1Description: Manufacturer Link; ComponentLink1URL: http://www.maxim-ic.com/; ComponentLink2Description: Datasheet; ComponentLink2URL: http://pdfserv.maxim-ic.com/en/ds/MAX220-MAX249.pdf
footprint JE16 (DIP, 16-Leads, Row Spacing 7.62mm, Pitch 2.54mm, Body 20.37x6.73mm)
3D model JE16 (DIP, 16-Pin, Row Spacing 7.62 mm, Pitch 2.54 mm)
pins: 1 C1+, 2 V+ (power), 3 C1-, 4 C2+, 5 C2-, 6 V- (power), 7 T2OUT (out), 8 R2IN (in), 9 R2OUT (out), 10 T2IN (in), 11 T1IN (in), 12 R1OUT (out), 13 R1IN (in), 14 T1OUT (out), 15 GND (power), 16 VCC (power)
text: T1; T2; R1; R2

## MAX243EPE
designator U?
+5V-Powered, Multichannel RS-232 Driver/Receiver; Published: 16-Jan-2001; LatestRevisionDate: 29-May-2009; LatestRevisionNote: Component Body Added.; DatasheetVersion: Nov-1997; PackageVersion: Aug-2000; PackageReference: PE16; Publisher: Altium Limited; PackageDescription: DIP, 16-Pin, Row Spacing 7.62 mm, Pitch 2.54 mm; Code_JEDEC: MS-001-BB; ComponentLink1Description: Manufacturer Link; ComponentLink1URL: http://www.maxim-ic.com/; ComponentLink2Description: Datasheet; ComponentLink2URL: http://pdfserv.maxim-ic.com/en/ds/MAX220-MAX249.pdf
footprint PE16 (DIP, 16-Leads, Row Spacing 7.62mm, Pitch 2.54mm, Body 19.18x7.24mm)
3D model PE16 (DIP, 16-Pin, Row Spacing 7.62 mm, Pitch 2.54 mm)
pins: 1 C1+, 2 V+ (power), 3 C1-, 4 C2+, 5 C2-, 6 V- (power), 7 T2OUT (out), 8 R2IN (in), 9 R2OUT (out), 10 T2IN (in), 11 T1IN (in), 12 R1OUT (out), 13 R1IN (in), 14 T1OUT (out), 15 GND (power), 16 VCC (power)
text: T1; T2; R1; R2

## MAX243ESE
designator U?
+5V-Powered, Multichannel RS-232 Driver/Receiver; Published: 16-Jan-2001; LatestRevisionDate: 13-Apr-2006; LatestRevisionNote: IPC-7351 Footprint Added.; DatasheetVersion: Nov-1997; PackageReference: NSO16; Publisher: Altium Limited; PackageDescription: 16-Pin Small Outline Integrated Circuit 1.27 mm Pitch; Code_JEDEC: MS-012-AC; Code_IPC: SOIC127P600-16; ComponentLink1Description: Manufacturer Link; ComponentLink1URL: http://www.maxim-ic.com/; ComponentLink2Description: Datasheet; ComponentLink2URL: http://pdfserv.maxim-ic.com/en/ds/MAX220-MAX249.pdf
footprint NSO16_N (SOIC, 16-Leads, Body 9.9x3.9mm, Pitch 1.27mm, IPC Medium Density)
footprint NSO16_L (SOIC, 16-Leads, Body 9.9x3.9mm, Pitch 1.27mm, IPC High Density)
footprint NSO16_M (SOIC, 16-Leads, Body 9.9x3.9mm, Pitch 1.27mm, IPC Low Density)
3D model NSO16 (16-Pin Small Outline Integrated Circuit 1.27 mm Pitch)
pins: 1 C1+, 2 V+ (power), 3 C1-, 4 C2+, 5 C2-, 6 V- (power), 7 T2OUT (out), 8 R2IN (in), 9 R2OUT (out), 10 T2IN (in), 11 T1IN (in), 12 R1OUT (out), 13 R1IN (in), 14 T1OUT (out), 15 GND (power), 16 VCC (power)
text: T1; T2; R1; R2

## MAX243EWE
designator U?
+5V-Powered, Multichannel RS-232 Driver/Receiver; Published: 16-Jan-2001; LatestRevisionDate: 13-Apr-2006; LatestRevisionNote: IPC-7351 Footprint Added.; DatasheetVersion: Nov-1997; PackageReference: WSO16; Publisher: Altium Limited; PackageDescription: 16-Pin Small Outline Integrated Circuit 1.27 mm Pitch; Code_JEDEC: MS-013-AA; Code_IPC: SOIC127P1030-16; ComponentLink1Description: Manufacturer Link; ComponentLink1URL: http://www.maxim-ic.com/; ComponentLink2Description: Datasheet; ComponentLink2URL: http://pdfserv.maxim-ic.com/en/ds/MAX220-MAX249.pdf
footprint WSO16_N (SOIC, 16-Leads, Body 10.3x7.5mm, Pitch 1.27mm, IPC Medium Density)
footprint WSO16_L (SOIC, 16-Leads, Body 10.3x7.5mm, Pitch 1.27mm, IPC High Density)
footprint WSO16_M (SOIC, 16-Leads, Body 10.3x7.5mm, Pitch 1.27mm, IPC Low Density)
3D model WSO16 (16-Pin Small Outline Integrated Circuit 1.27 mm Pitch)
pins: 1 C1+, 2 V+ (power), 3 C1-, 4 C2+, 5 C2-, 6 V- (power), 7 T2OUT (out), 8 R2IN (in), 9 R2OUT (out), 10 T2IN (in), 11 T1IN (in), 12 R1OUT (out), 13 R1IN (in), 14 T1OUT (out), 15 GND (power), 16 VCC (power)
text: T1; T2; R1; R2

## MAX243MJE
designator U?
+5V-Powered, Multichannel RS-232 Driver/Receiver; Published: 16-Jan-2001; LatestRevisionDate: 29-May-2009; LatestRevisionNote: Component Body Added.; DatasheetVersion: Nov-1997; PackageVersion: 1996; PackageReference: JE16; Publisher: Altium Limited; PackageDescription: DIP, 16-Pin, Row Spacing 7.62 mm, Pitch 2.54 mm; ComponentLink1Description: Manufacturer Link; ComponentLink1URL: http://www.maxim-ic.com/; ComponentLink2Description: Datasheet; ComponentLink2URL: http://pdfserv.maxim-ic.com/en/ds/MAX220-MAX249.pdf
footprint JE16 (DIP, 16-Leads, Row Spacing 7.62mm, Pitch 2.54mm, Body 20.37x6.73mm)
3D model JE16 (DIP, 16-Pin, Row Spacing 7.62 mm, Pitch 2.54 mm)
pins: 1 C1+, 2 V+ (power), 3 C1-, 4 C2+, 5 C2-, 6 V- (power), 7 T2OUT (out), 8 R2IN (in), 9 R2OUT (out), 10 T2IN (in), 11 T1IN (in), 12 R1OUT (out), 13 R1IN (in), 14 T1OUT (out), 15 GND (power), 16 VCC (power)
text: T1; T2; R1; R2

## MAX244CQH
designator U?
+5V-Powered, Multichannel RS-232 Driver/Receiver; Published: 16-Jan-2001; LatestRevisionDate: 13-Apr-2006; LatestRevisionNote: IPC-7351 Footprint Added.; DatasheetVersion: Nov-1997; PackageReference: PLCC44; Publisher: Altium Limited; PackageDescription: 44-Pin Leaded Chip Carrier 1.27 mm Pitch; Code_IPC: PLCC-44; ComponentLink1Description: Manufacturer Link; ComponentLink1URL: http://www.maxim-ic.com/; ComponentLink2Description: Datasheet; ComponentLink2URL: http://pdfserv.maxim-ic.com/en/ds/MAX220-MAX249.pdf
footprint PLCC44_N (Leaded Chip Carrier, 44-Leads, Body 16.6x16.6mm, Pitch 1.27mm, IPC Medium Density)
footprint PLCC44_L (Leaded Chip Carrier, 44-Leads, Body 16.6x16.6mm, Pitch 1.27mm, IPC High Density)
footprint PLCC44_M (Leaded Chip Carrier, 44-Leads, Body 16.6x16.6mm, Pitch 1.27mm, IPC Low Density)
3D model MAX244-PLCC44 (44-Pin Leaded Chip Carrier 1.27 mm Pitch)
pins: 1 TA1OUT (out), 2 TA2OUT (out), 3 TA3OUT (out), 4 TA4OUT (out), 5 RA5IN (in), 6 RA4IN (in), 7 RA3IN (in), 8 RA2IN (in), 9 RA1IN (in), 10 RA1OUT (out), 11 RA2OUT (out), 12 RA3OUT (out), 13 RA4OUT (out), 14 RA5OUT (out), 15 TA1IN (in), 16 TA2IN (in), 17 TA3IN (in), 18 TA4IN (in), 19 GND (power), 20 VCC (power), 21 C1+, 22 V+ (power), 23 C1-, 24 C2+, 25 C2-, 26 V- (power), 27 TB4IN (in), 28 TB3IN (in), 29 TB2IN (in), 30 TB1IN (in), 31 RB5OUT (out), 32 RB4OUT (out), 33 RB3OUT (out), 34 RB2OUT (out), 35 RB1OUT (out), 36 RB1IN (in), 37 RB2IN (in), 38 RB3IN (in), 39 RB4IN (in), 40 RB5IN (in), 41 TB4OUT (out), 42 TB3OUT (out), 43 TB2OUT (out), 44 TB1OUT (out)

## MAX244EQH
designator U?
+5V-Powered, Multichannel RS-232 Driver/Receiver; Published: 16-Jan-2001; LatestRevisionDate: 13-Apr-2006; LatestRevisionNote: IPC-7351 Footprint Added.; DatasheetVersion: Nov-1997; PackageReference: PLCC44; Publisher: Altium Limited; PackageDescription: 44-Pin Leaded Chip Carrier 1.27 mm Pitch; Code_IPC: PLCC-44; ComponentLink1Description: Manufacturer Link; ComponentLink1URL: http://www.maxim-ic.com/; ComponentLink2Description: Datasheet; ComponentLink2URL: http://pdfserv.maxim-ic.com/en/ds/MAX220-MAX249.pdf
footprint PLCC44_N (Leaded Chip Carrier, 44-Leads, Body 16.6x16.6mm, Pitch 1.27mm, IPC Medium Density)
footprint PLCC44_L (Leaded Chip Carrier, 44-Leads, Body 16.6x16.6mm, Pitch 1.27mm, IPC High Density)
footprint PLCC44_M (Leaded Chip Carrier, 44-Leads, Body 16.6x16.6mm, Pitch 1.27mm, IPC Low Density)
3D model MAX244-PLCC44 (44-Pin Leaded Chip Carrier 1.27 mm Pitch)
pins: 1 TA1OUT (out), 2 TA2OUT (out), 3 TA3OUT (out), 4 TA4OUT (out), 5 RA5IN (in), 6 RA4IN (in), 7 RA3IN (in), 8 RA2IN (in), 9 RA1IN (in), 10 RA1OUT (out), 11 RA2OUT (out), 12 RA3OUT (out), 13 RA4OUT (out), 14 RA5OUT (out), 15 TA1IN (in), 16 TA2IN (in), 17 TA3IN (in), 18 TA4IN (in), 19 GND (power), 20 VCC (power), 21 C1+, 22 V+ (power), 23 C1-, 24 C2+, 25 C2-, 26 V- (power), 27 TB4IN (in), 28 TB3IN (in), 29 TB2IN (in), 30 TB1IN (in), 31 RB5OUT (out), 32 RB4OUT (out), 33 RB3OUT (out), 34 RB2OUT (out), 35 RB1OUT (out), 36 RB1IN (in), 37 RB2IN (in), 38 RB3IN (in), 39 RB4IN (in), 40 RB5IN (in), 41 TB4OUT (out), 42 TB3OUT (out), 43 TB2OUT (out), 44 TB1OUT (out)

## MAX245CPL
designator U?
+5V-Powered, Multichannel RS-232 Driver/Receiver; Published: 16-Jan-2001; LatestRevisionDate: 29-May-2009; LatestRevisionNote: Component Body Added.; DatasheetVersion: Nov-1997; PackageVersion: RevA, 21-0044; PackageReference: PL40; Publisher: Altium Limited; PackageDescription: DIP, 40-Pin, Row Spacing 15.24 mm, Pitch 2.54 mm; ComponentLink1Description: Manufacturer Link; ComponentLink1URL: http://www.maxim-ic.com/; ComponentLink2Description: Datasheet; ComponentLink2URL: http://pdfserv.maxim-ic.com/en/ds/MAX220-MAX249.pdf
footprint PL40 (DIP, 40-Leads, Row Spacing 15.24mm, Pitch 2.54mm, Body 52.08x13.98mm)
3D model PL40 (DIP, 40-Pin, Row Spacing 15.24 mm, Pitch 2.54 mm)
pins: 1 ~{ENR} (in), 2 TA1IN (in), 3 TA2IN (in), 4 TA3IN (in), 5 TA4IN (in), 6 RA5OUT (out), 7 RA4OUT (out), 8 RA3OUT (out), 9 RA2OUT (out), 10 RA1OUT (out), 11 RA1IN (in), 12 RA2IN (in), 13 RA3IN (in), 14 RA4IN (in), 15 RA5IN (in), 16 TA1OUT (out), 17 TA2OUT (out), 18 TA3OUT (out), 19 TA4OUT (out), 20 GND (power), 21 TB4OUT (out), 22 TB3OUT (out), 23 TB2OUT (out), 24 TB1OUT (out), 25 RB5IN (in), 26 RB4IN (in), 27 RB3IN (in), 28 RB2IN (in), 29 RB1IN (in), 30 RB1OUT (out), 31 RB2OUT (out), 32 RB3OUT (out), 33 RB4OUT (out), 34 RB5OUT (out), 35 TB4IN (in), 36 TB3IN (in), 37 TB2IN (in), 38 TB1IN (in), 39 ~{ENT} (in), 40 VCC (power)

## MAX245EPL
designator U?
+5V-Powered, Multichannel RS-232 Driver/Receiver; Published: 16-Jan-2001; LatestRevisionDate: 29-May-2009; LatestRevisionNote: Component Body Added.; DatasheetVersion: Nov-1997; PackageVersion: RevA, 21-0044; PackageReference: PL40; Publisher: Altium Limited; PackageDescription: DIP, 40-Pin, Row Spacing 15.24 mm, Pitch 2.54 mm; ComponentLink1Description: Manufacturer Link; ComponentLink1URL: http://www.maxim-ic.com/; ComponentLink2Description: Datasheet; ComponentLink2URL: http://pdfserv.maxim-ic.com/en/ds/MAX220-MAX249.pdf
footprint PL40 (DIP, 40-Leads, Row Spacing 15.24mm, Pitch 2.54mm, Body 52.08x13.98mm)
3D model PL40 (DIP, 40-Pin, Row Spacing 15.24 mm, Pitch 2.54 mm)
pins: 1 ~{ENR} (in), 2 TA1IN (in), 3 TA2IN (in), 4 TA3IN (in), 5 TA4IN (in), 6 RA5OUT (out), 7 RA4OUT (out), 8 RA3OUT (out), 9 RA2OUT (out), 10 RA1OUT (out), 11 RA1IN (in), 12 RA2IN (in), 13 RA3IN (in), 14 RA4IN (in), 15 RA5IN (in), 16 TA1OUT (out), 17 TA2OUT (out), 18 TA3OUT (out), 19 TA4OUT (out), 20 GND (power), 21 TB4OUT (out), 22 TB3OUT (out), 23 TB2OUT (out), 24 TB1OUT (out), 25 RB5IN (in), 26 RB4IN (in), 27 RB3IN (in), 28 RB2IN (in), 29 RB1IN (in), 30 RB1OUT (out), 31 RB2OUT (out), 32 RB3OUT (out), 33 RB4OUT (out), 34 RB5OUT (out), 35 TB4IN (in), 36 TB3IN (in), 37 TB2IN (in), 38 TB1IN (in), 39 ~{ENT} (in), 40 VCC (power)

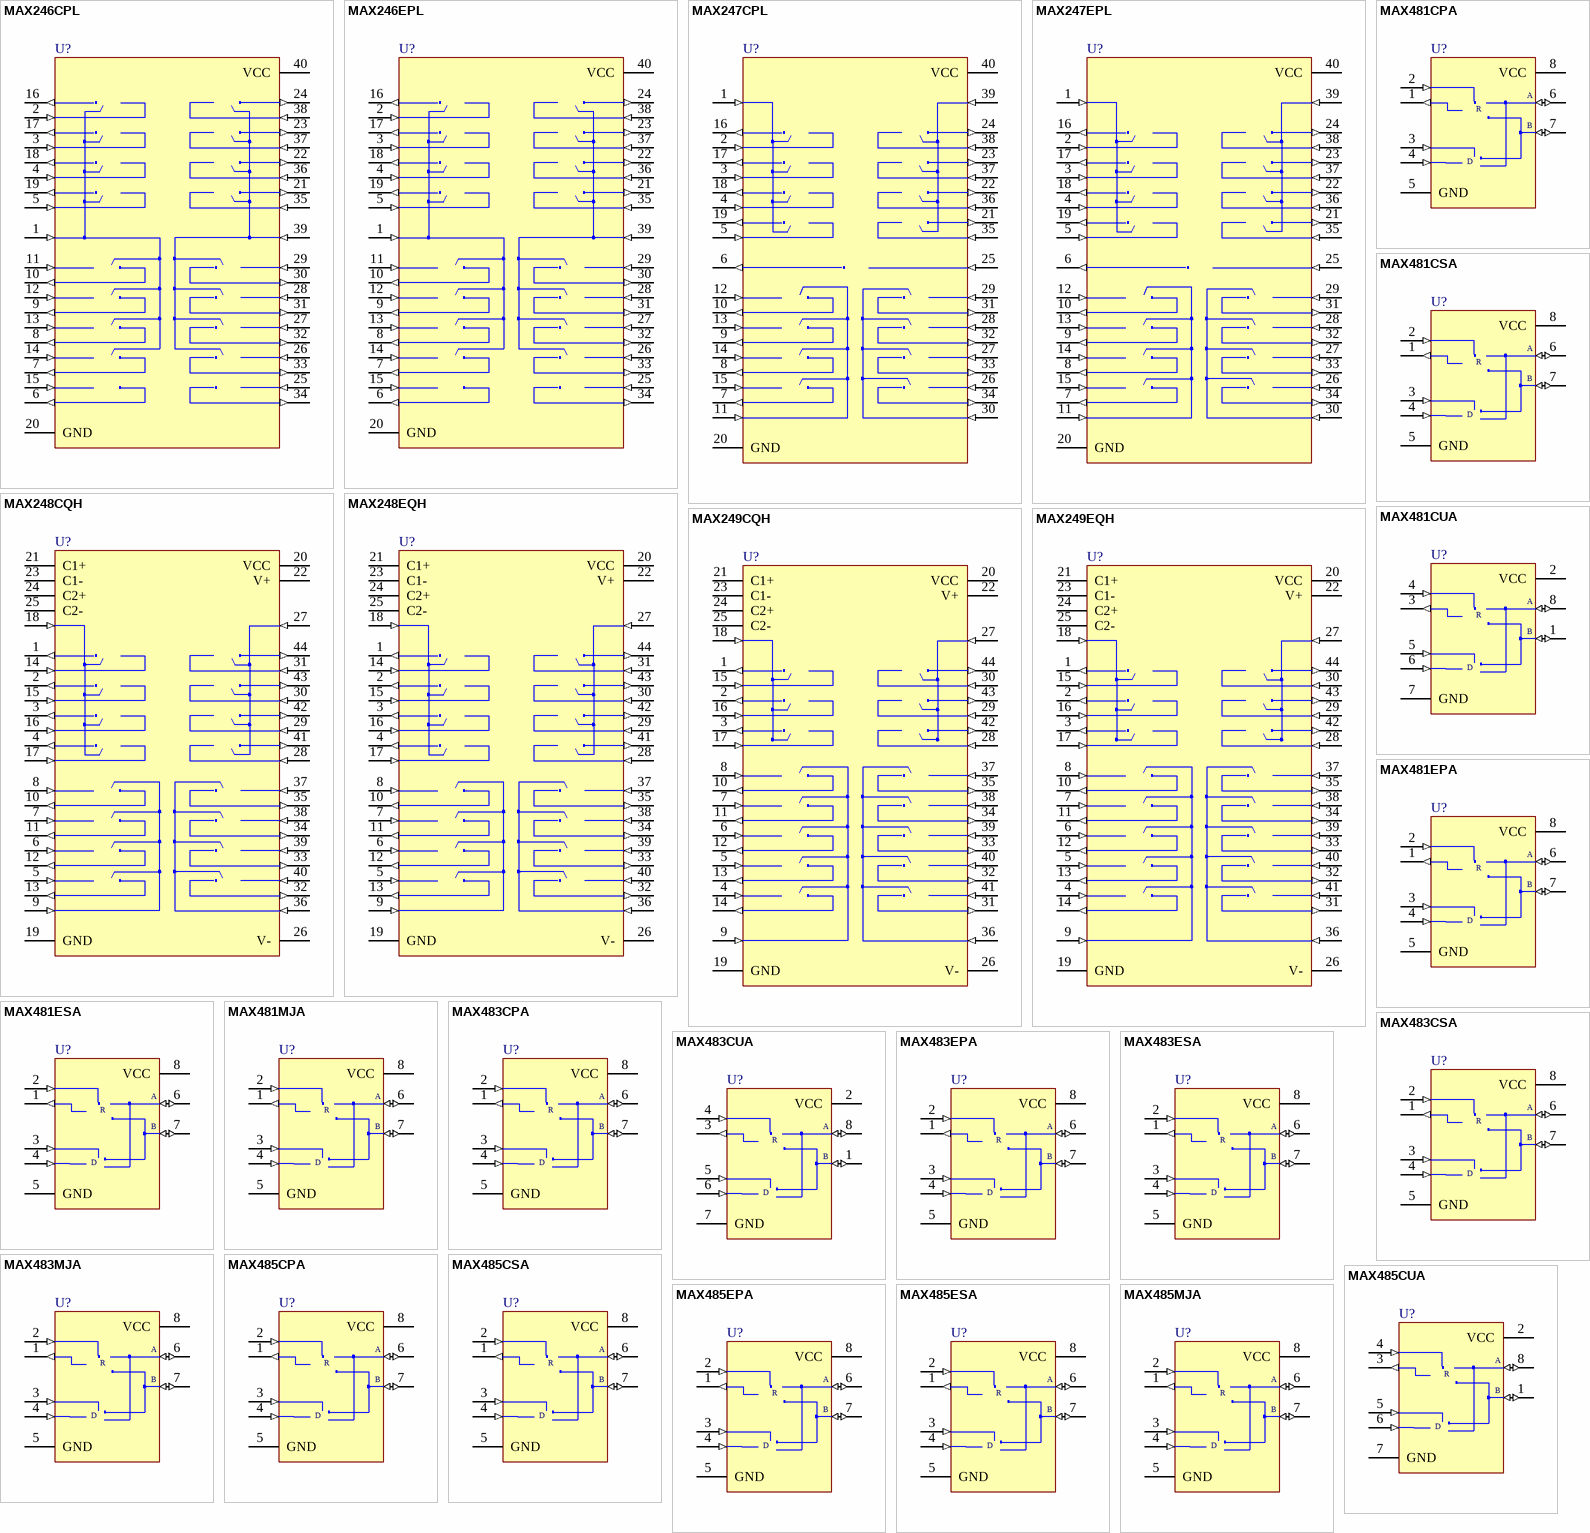
[diagram p7: symbols MAX246CPL to MAX485MJA]

## MAX246CPL
designator U?
+5V-Powered, Multichannel RS-232 Driver/Receiver; Published: 16-Jan-2001; LatestRevisionDate: 29-May-2009; LatestRevisionNote: Component Body Added.; DatasheetVersion: Nov-1997; PackageVersion: RevA, 21-0044; PackageReference: PL40; Publisher: Altium Limited; PackageDescription: DIP, 40-Pin, Row Spacing 15.24 mm, Pitch 2.54 mm; ComponentLink1Description: Manufacturer Link; ComponentLink1URL: http://www.maxim-ic.com/; ComponentLink2Description: Datasheet; ComponentLink2URL: http://pdfserv.maxim-ic.com/en/ds/MAX220-MAX249.pdf
footprint PL40 (DIP, 40-Leads, Row Spacing 15.24mm, Pitch 2.54mm, Body 52.08x13.98mm)
3D model PL40 (DIP, 40-Pin, Row Spacing 15.24 mm, Pitch 2.54 mm)
pins: 1 ~{ENA} (in), 2 TA1IN (in), 3 TA2IN (in), 4 TA3IN (in), 5 TA4IN (in), 6 RA5OUT (out), 7 RA4OUT (out), 8 RA3OUT (out), 9 RA2OUT (out), 10 RA1OUT (out), 11 RA1IN (in), 12 RA2IN (in), 13 RA3IN (in), 14 RA4IN (in), 15 RA5IN (in), 16 TA1OUT (out), 17 TA2OUT (out), 18 TA3OUT (out), 19 TA4OUT (out), 20 GND (power), 21 TB4OUT (out), 22 TB3OUT (out), 23 TB2OUT (out), 24 TB1OUT (out), 25 RB5IN (in), 26 RB4IN (in), 27 RB3IN (in), 28 RB2IN (in), 29 RB1IN (in), 30 RB1OUT (out), 31 RB2OUT (out), 32 RB3OUT (out), 33 RB4OUT (out), 34 RB5OUT (out), 35 TB4IN (in), 36 TB3IN (in), 37 TB2IN (in), 38 TB1IN (in), 39 ~{ENB} (in), 40 VCC (power)

## MAX246EPL
designator U?
+5V-Powered, Multichannel RS-232 Driver/Receiver; Published: 16-Jan-2001; LatestRevisionDate: 29-May-2009; LatestRevisionNote: Component Body Added.; DatasheetVersion: Nov-1997; PackageVersion: RevA, 21-0044; PackageReference: PL40; Publisher: Altium Limited; PackageDescription: DIP, 40-Pin, Row Spacing 15.24 mm, Pitch 2.54 mm; ComponentLink1Description: Manufacturer Link; ComponentLink1URL: http://www.maxim-ic.com/; ComponentLink2Description: Datasheet; ComponentLink2URL: http://pdfserv.maxim-ic.com/en/ds/MAX220-MAX249.pdf
footprint PL40 (DIP, 40-Leads, Row Spacing 15.24mm, Pitch 2.54mm, Body 52.08x13.98mm)
3D model PL40 (DIP, 40-Pin, Row Spacing 15.24 mm, Pitch 2.54 mm)
pins: 1 ~{ENA} (in), 2 TA1IN (in), 3 TA2IN (in), 4 TA3IN (in), 5 TA4IN (in), 6 RA5OUT (out), 7 RA4OUT (out), 8 RA3OUT (out), 9 RA2OUT (out), 10 RA1OUT (out), 11 RA1IN (in), 12 RA2IN (in), 13 RA3IN (in), 14 RA4IN (in), 15 RA5IN (in), 16 TA1OUT (out), 17 TA2OUT (out), 18 TA3OUT (out), 19 TA4OUT (out), 20 GND (power), 21 TB4OUT (out), 22 TB3OUT (out), 23 TB2OUT (out), 24 TB1OUT (out), 25 RB5IN (in), 26 RB4IN (in), 27 RB3IN (in), 28 RB2IN (in), 29 RB1IN (in), 30 RB1OUT (out), 31 RB2OUT (out), 32 RB3OUT (out), 33 RB4OUT (out), 34 RB5OUT (out), 35 TB4IN (in), 36 TB3IN (in), 37 TB2IN (in), 38 TB1IN (in), 39 ~{ENB} (in), 40 VCC (power)

## MAX247CPL
designator U?
+5V-Powered, Multichannel RS-232 Driver/Receiver; Published: 16-Jan-2001; LatestRevisionDate: 29-May-2009; LatestRevisionNote: Component Body Added.; DatasheetVersion: Nov-1997; PackageVersion: RevA, 21-0044; PackageReference: PL40; Publisher: Altium Limited; PackageDescription: DIP, 40-Pin, Row Spacing 15.24 mm, Pitch 2.54 mm; ComponentLink1Description: Manufacturer Link; ComponentLink1URL: http://www.maxim-ic.com/; ComponentLink2Description: Datasheet; ComponentLink2URL: http://pdfserv.maxim-ic.com/en/ds/MAX220-MAX249.pdf
footprint PL40 (DIP, 40-Leads, Row Spacing 15.24mm, Pitch 2.54mm, Body 52.08x13.98mm)
3D model PL40 (DIP, 40-Pin, Row Spacing 15.24 mm, Pitch 2.54 mm)
pins: 1 ~{ENTA} (in), 2 TA1IN (in), 3 TA2IN (in), 4 TA3IN (in), 5 TA4IN (in), 6 RB5OUT (out), 7 RA4OUT (out), 8 RA3OUT (out), 9 RA2OUT (out), 10 RA1OUT (out), 11 ~{ENRA} (in), 12 RA1IN (in), 13 RA2IN (in), 14 RA3IN (in), 15 RA4IN (in), 16 TA1OUT (out), 17 TA2OUT (out), 18 TA3OUT (out), 19 TA4OUT (out), 20 GND (power), 21 TB4OUT (out), 22 TB3OUT (out), 23 TB2OUT (out), 24 TB1OUT (out), 25 RB5IN (in), 26 RB4IN (in), 27 RB3IN (in), 28 RB2IN (in), 29 RB1IN (in), 30 ~{ENRB} (in), 31 RB1OUT (out), 32 RB2OUT (out), 33 RB3OUT (out), 34 RB4OUT (out), 35 TB4IN (in), 36 TB3IN (in), 37 TB2IN (in), 38 TB1IN (in), 39 ~{ENTB} (in), 40 VCC (power)

## MAX247EPL
designator U?
+5V-Powered, Multichannel RS-232 Driver/Receiver; Published: 16-Jan-2001; LatestRevisionDate: 29-May-2009; LatestRevisionNote: Component Body Added.; DatasheetVersion: Nov-1997; PackageVersion: RevA, 21-0044; PackageReference: PL40; Publisher: Altium Limited; PackageDescription: DIP, 40-Pin, Row Spacing 15.24 mm, Pitch 2.54 mm; ComponentLink1Description: Manufacturer Link; ComponentLink1URL: http://www.maxim-ic.com/; ComponentLink2Description: Datasheet; ComponentLink2URL: http://pdfserv.maxim-ic.com/en/ds/MAX220-MAX249.pdf
footprint PL40 (DIP, 40-Leads, Row Spacing 15.24mm, Pitch 2.54mm, Body 52.08x13.98mm)
3D model PL40 (DIP, 40-Pin, Row Spacing 15.24 mm, Pitch 2.54 mm)
pins: 1 ~{ENTA} (in), 2 TA1IN (in), 3 TA2IN (in), 4 TA3IN (in), 5 TA4IN (in), 6 RB5OUT (out), 7 RA4OUT (out), 8 RA3OUT (out), 9 RA2OUT (out), 10 RA1OUT (out), 11 ~{ENRA} (in), 12 RA1IN (in), 13 RA2IN (in), 14 RA3IN (in), 15 RA4IN (in), 16 TA1OUT (out), 17 TA2OUT (out), 18 TA3OUT (out), 19 TA4OUT (out), 20 GND (power), 21 TB4OUT (out), 22 TB3OUT (out), 23 TB2OUT (out), 24 TB1OUT (out), 25 RB5IN (in), 26 RB4IN (in), 27 RB3IN (in), 28 RB2IN (in), 29 RB1IN (in), 30 ~{ENRB} (in), 31 RB1OUT (out), 32 RB2OUT (out), 33 RB3OUT (out), 34 RB4OUT (out), 35 TB4IN (in), 36 TB3IN (in), 37 TB2IN (in), 38 TB1IN (in), 39 ~{ENTB} (in), 40 VCC (power)

## MAX248CQH
designator U?
+5V-Powered, Multichannel RS-232 Driver/Receiver; Published: 16-Jan-2001; LatestRevisionDate: 13-Apr-2006; LatestRevisionNote: IPC-7351 Footprint Added.; DatasheetVersion: Nov-1997; PackageReference: PLCC44; Publisher: Altium Limited; PackageDescription: 44-Pin Leaded Chip Carrier 1.27 mm Pitch; Code_IPC: PLCC-44; ComponentLink1Description: Manufacturer Link; ComponentLink1URL: http://www.maxim-ic.com/; ComponentLink2Description: Datasheet; ComponentLink2URL: http://pdfserv.maxim-ic.com/en/ds/MAX220-MAX249.pdf
footprint PLCC44_N (Leaded Chip Carrier, 44-Leads, Body 16.6x16.6mm, Pitch 1.27mm, IPC Medium Density)
footprint PLCC44_L (Leaded Chip Carrier, 44-Leads, Body 16.6x16.6mm, Pitch 1.27mm, IPC High Density)
footprint PLCC44_M (Leaded Chip Carrier, 44-Leads, Body 16.6x16.6mm, Pitch 1.27mm, IPC Low Density)
3D model MAX248-PLCC44 (44-Pin Leaded Chip Carrier 1.27 mm Pitch)
pins: 1 TA1OUT (out), 2 TA2OUT (out), 3 TA3OUT (out), 4 TA4OUT (out), 5 RA4IN (in), 6 RA3IN (in), 7 RA2IN (in), 8 RA1IN (in), 9 ~{ENRA} (in), 10 RA1OUT (out), 11 RA2OUT (out), 12 RA3OUT (out), 13 RA4OUT (out), 14 TA1IN (in), 15 TA2IN (in), 16 TA3IN (in), 17 TA4IN (in), 18 ~{ENTA} (in), 19 GND (power), 20 VCC (power), 21 C1+, 22 V+ (power), 23 C1-, 24 C2+, 25 C2-, 26 V- (power), 27 ~{ENTB} (in), 28 TB4IN (in), 29 TB3IN (in), 30 TB2IN (in), 31 TB1IN (in), 32 RB4OUT (out), 33 RB3OUT (out), 34 RB2OUT (out), 35 RB1OUT (out), 36 ~{ENRB} (in), 37 RB1IN (in), 38 RB2IN (in), 39 RB3IN (in), 40 RB4IN (in), 41 TB4OUT (out), 42 TB3OUT (out), 43 TB2OUT (out), 44 TB1OUT (out)

## MAX248EQH
designator U?
+5V-Powered, Multichannel RS-232 Driver/Receiver; Published: 16-Jan-2001; LatestRevisionDate: 13-Apr-2006; LatestRevisionNote: IPC-7351 Footprint Added.; DatasheetVersion: Nov-1997; PackageReference: PLCC44; Publisher: Altium Limited; PackageDescription: 44-Pin Leaded Chip Carrier 1.27 mm Pitch; Code_IPC: PLCC-44; ComponentLink1Description: Manufacturer Link; ComponentLink1URL: http://www.maxim-ic.com/; ComponentLink2Description: Datasheet; ComponentLink2URL: http://pdfserv.maxim-ic.com/en/ds/MAX220-MAX249.pdf
footprint PLCC44_N (Leaded Chip Carrier, 44-Leads, Body 16.6x16.6mm, Pitch 1.27mm, IPC Medium Density)
footprint PLCC44_L (Leaded Chip Carrier, 44-Leads, Body 16.6x16.6mm, Pitch 1.27mm, IPC High Density)
footprint PLCC44_M (Leaded Chip Carrier, 44-Leads, Body 16.6x16.6mm, Pitch 1.27mm, IPC Low Density)
3D model MAX248-PLCC44 (44-Pin Leaded Chip Carrier 1.27 mm Pitch)
pins: 1 TA1OUT (out), 2 TA2OUT (out), 3 TA3OUT (out), 4 TA4OUT (out), 5 RA4IN (in), 6 RA3IN (in), 7 RA2IN (in), 8 RA1IN (in), 9 ~{ENRA} (in), 10 RA1OUT (out), 11 RA2OUT (out), 12 RA3OUT (out), 13 RA4OUT (out), 14 TA1IN (in), 15 TA2IN (in), 16 TA3IN (in), 17 TA4IN (in), 18 ~{ENTA} (in), 19 GND (power), 20 VCC (power), 21 C1+, 22 V+ (power), 23 C1-, 24 C2+, 25 C2-, 26 V- (power), 27 ~{ENTB} (in), 28 TB4IN (in), 29 TB3IN (in), 30 TB2IN (in), 31 TB1IN (in), 32 RB4OUT (out), 33 RB3OUT (out), 34 RB2OUT (out), 35 RB1OUT (out), 36 ~{ENRB} (in), 37 RB1IN (in), 38 RB2IN (in), 39 RB3IN (in), 40 RB4IN (in), 41 TB4OUT (out), 42 TB3OUT (out), 43 TB2OUT (out), 44 TB1OUT (out)

## MAX249CQH
designator U?
+5V-Powered, Multichannel RS-232 Driver/Receiver; Published: 16-Jan-2001; LatestRevisionDate: 13-Apr-2006; LatestRevisionNote: IPC-7351 Footprint Added.; DatasheetVersion: Nov-1997; PackageReference: PLCC44; Publisher: Altium Limited; PackageDescription: 44-Pin Leaded Chip Carrier 1.27 mm Pitch; Code_IPC: PLCC-44; ComponentLink1Description: Manufacturer Link; ComponentLink1URL: http://www.maxim-ic.com/; ComponentLink2Description: Datasheet; ComponentLink2URL: http://pdfserv.maxim-ic.com/en/ds/MAX220-MAX249.pdf
footprint PLCC44_N (Leaded Chip Carrier, 44-Leads, Body 16.6x16.6mm, Pitch 1.27mm, IPC Medium Density)
footprint PLCC44_L (Leaded Chip Carrier, 44-Leads, Body 16.6x16.6mm, Pitch 1.27mm, IPC High Density)
footprint PLCC44_M (Leaded Chip Carrier, 44-Leads, Body 16.6x16.6mm, Pitch 1.27mm, IPC Low Density)
3D model MAX249-PLCC44 (44-Pin Leaded Chip Carrier 1.27 mm Pitch)
pins: 1 TA1OUT (out), 2 TA2OUT (out), 3 TA3OUT (out), 4 RA5IN (in), 5 RA4IN (in), 6 RA3IN (in), 7 RA2IN (in), 8 RA1IN (in), 9 ~{ENRA} (in), 10 RA1OUT (out), 11 RA2OUT (out), 12 RA3OUT (out), 13 RA4OUT (out), 14 RA5OUT (out), 15 TA1IN (in), 16 TA2IN (in), 17 TA3IN (in), 18 ~{ENTA} (in), 19 GND (power), 20 VCC (power), 21 C1+, 22 V+ (power), 23 C1-, 24 C2+, 25 C2-, 26 V- (power), 27 ~{ENTB} (in), 28 TB3IN (in), 29 TB2IN (in), 30 TB1IN (in), 31 RB5OUT (out), 32 RB4OUT (out), 33 RB3OUT (out), 34 RB2OUT (out), 35 RB1OUT (out), 36 ~{ENRB} (in), 37 RB1IN (in), 38 RB2IN (in), 39 RB3IN (in), 40 RB4IN (in), 41 RB5IN (in), 42 TB3OUT (out), 43 TB2OUT (out), 44 TB1OUT (out)